# Altium footprint library sensornode.PcbLib: 55 footprints (part 4 of 4)
Each footprint in its own frame and in the unit in brackets; x right, y up, seen from the top. Pads: shape width x height; smd on the part's side, far side on the other; paste and mask are expansions set on the pad; w line width, h text height; cw(c..) or ccw(c..) is an arc to the next point about the centre after c.
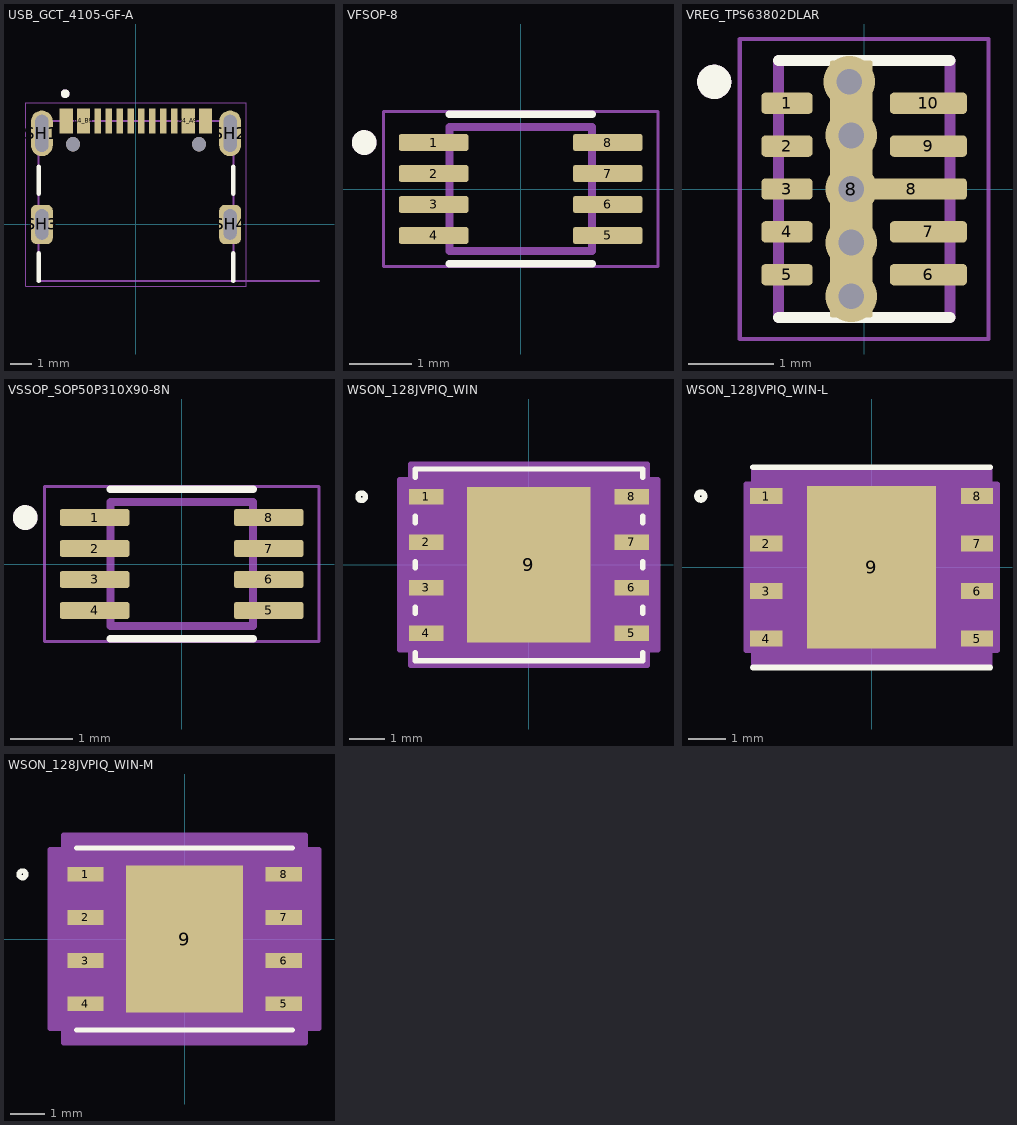
[diagram p3: the footprints below, top view; thin cyan lines are the x and y axes]

## USB_GCT_4105-GF-A [mm]
height 3.31
pads (18):
  rect 0.6x1.15 smd: A1_B12(-3.2,4.755) A4_B9(-2.4,4.755) B1_A12(3.2,4.755) B4_A9(2.4,4.755)
  rect 0.3x1.15 smd: A5(-1.25,4.755) A6(-0.25,4.755) A7(0.25,4.755) A8(1.25,4.755) B5(1.75,4.755) B6(0.75,4.755) B7(-0.75,4.755) B8(-1.75,4.755)
  oval 1x2.1 hole 0.6 slot 1.7 at 90 deg: SH1(-4.32,4.18) SH2(4.32,4.18)
  rrect50% 1x1.8 hole 0.6 slot 1.4 at 90 deg: SH3(-4.32,0) SH4(4.32,0)
  round 0.65 hole 0.65 unplated: ""(-2.89,3.68) ""(2.89,3.68)
Top Overlay:
  circle w0.2: c-3.25,6 r0.1
  lines w0.2: -4.47,-2.6 -4.47,-1.32 ; -4.47,1.4 -4.47,2.65 ; 4.47,-2.6 4.47,-1.32 ; 4.47,1.4 4.47,2.65
Mechanical 13:
  circle w0.2: c-3.25,6 r0.1
  lines w0.1: 8.4,-2.6 4.47,-2.6 ; 4.47,-2.6 -4.47,-2.6 -4.47,4.75 4.47,4.75 4.47,-2.6
  text "PCB EDGE" at 5.4,-2.5 h0.41
Mechanical 15:
  lines w0.05: -5.07,-2.85 5.07,-2.85 5.07,5.58 -5.07,5.58 -5.07,-2.85
3D body "step_temp.STEP": height 3.31, standoff -1.1, extent -4.47,-2.6 4.47,5.11

## VFSOP-8 [mm] "SOP50P310X90-8N"
pads (8):
  rrect25% 1.12x0.27 smd: 1(-1.405,0.75) 2(-1.405,0.25) 3(-1.405,-0.25) 4(-1.405,-0.75) 5(1.405,-0.75) 6(1.405,-0.25) 7(1.405,0.25) 8(1.405,0.75)
Top Overlay:
  circle w0.2: c-2.525,0.75 r0.1
  lines w0.127: -1.15,-1.205 1.15,-1.205 ; -1.15,1.205 1.15,1.205
Mechanical 13:
  circle w0.2: c-2.525,0.75 r0.1
  lines w0.127: -1.15,-1 -1.15,1 1.15,1 1.15,-1 -1.15,-1
Mechanical 15:
  lines w0.05: -2.215,-1.25 -2.215,1.25 2.215,1.25 2.215,-1.25 -2.215,-1.25
3D body "TXU0102DCUR.STEP": height 0.9, standoff 0, extent -1.5,-1 1.6,1

## VREG_TPS63802DLAR [mm]
height 1
pads (11):
  rrect40% 0.6x0.25 smd mask+0: 1(-0.9,1) 2(-0.9,0.5) 3(-0.9,0) 4(-0.9,-0.5) 5(-0.9,-1)
  rrect40% 0.9x0.25 smd mask+0: 6(0.75,-1) 7(0.75,-0.5) 9(0.75,0.5) 10(0.75,1)
  rrect12% 0.5x3 smd paste-2 mask+0.05: 8(-0.15,0)
  rrect40% 1.3x0.25 smd paste-2 mask+0: 8(0.55,0)
via -0.15,-1.25 diameter 0.6 hole 0.3
via -0.175,1.25 diameter 0.6 hole 0.3
via -0.15,0 diameter 0.6 hole 0.3
via -0.15,-0.625 diameter 0.6 hole 0.3
via -0.15,0.625 diameter 0.6 hole 0.3
Top Overlay:
  circle w0.2: c-1.75,1.25 r0.1
  lines w0.127: -1,-1.5 1,-1.5 ; -1,1.5 1,1.5
Top Paste:
  drawing of 2 lines, arcs and shapes, not listed
Top Solder:
  drawing of 10 lines, arcs and shapes, not listed
Mechanical 13:
  circle w0.2: c-1.75,1.25 r0.1
  lines w0.127: -1,-1.5 1,-1.5 1,1.5 -1,1.5 -1,-1.5
Mechanical 15:
  lines w0.05: -1.45,-1.75 1.45,-1.75 1.45,1.75 -1.45,1.75 -1.45,-1.75
3D body "TPS63802DLAR--3DModel-STEP-269445.STEP": height 1, standoff 0, extent -1,-1.5 1,1.5

## VSSOP_SOP50P310X90-8N [mm]
pads (8):
  rrect25% 1.12x0.27 smd: 1(-1.405,0.75) 2(-1.405,0.25) 3(-1.405,-0.25) 4(-1.405,-0.75) 5(1.405,-0.75) 6(1.405,-0.25) 7(1.405,0.25) 8(1.405,0.75)
Top Overlay:
  circle w0.2: c-2.525,0.75 r0.1
  lines w0.127: -1.15,-1.205 1.15,-1.205 ; -1.15,1.205 1.15,1.205
Mechanical 13:
  circle w0.2: c-2.525,0.75 r0.1
  lines w0.127: -1.15,-1 -1.15,1 1.15,1 1.15,-1 -1.15,-1
Mechanical 15:
  lines w0.05: -2.215,-1.25 -2.215,1.25 2.215,1.25 2.215,-1.25 -2.215,-1.25
3D body "step_temp.STEP": height 0.9, standoff 0, extent -1.55,-1 1.55,1

## WSON_128JVPIQ_WIN [mil]
pads (9):
  rect 38x17 smd paste+0 mask+0: 1(-113,75) 2(-113,25) 3(-113,-25) 4(-113,-75) 5(113,-75) 6(113,-25) 7(113,25) 8(113,75)
  rect 136x171 smd paste+0 mask+0: 9(0,0)
Top Overlay:
  circle w6: c-184,75 r4
  lines w6: -125,-96.6 -125,-105.5 125,-105.5 125,-96.6 ; -125,-53.4 -125,-46.6 ; -125,-3.4 -125,3.4 ; -125,46.6 -125,53.4 ; -125,96.6 -125,105.5 125,105.5 125,96.6 ; 125,-53.4 125,-46.6 ; 125,-3.4 125,3.4 ; 125,46.6 125,53.4
Top Paste:
  region: -3.94,81.56 -64.06,81.56 -64.06,32.44 -3.94,32.44
  region: -3.94,24.56 -64.06,24.56 -64.06,-24.56 -3.94,-24.56
  region: -3.94,-32.44 -64.06,-32.44 -64.06,-81.56 -3.94,-81.56
  region: 64.06,81.56 3.94,81.56 3.94,32.44 64.06,32.44
  region: 64.06,24.56 3.94,24.56 3.94,-24.56 64.06,-24.56
  region: 64.06,-32.44 3.94,-32.44 3.94,-81.56 64.06,-81.56
Mechanical 13:
  circle w0: c-94,75 r3
  lines w0: -12,100.5 ccw(c0,100.5) 12,100.5
  lines w1: -120,-100.5 120,-100.5 120,100.5 -120,100.5 -120,-100.5
Mechanical 15:
  region: -130,-93.5 -142,-93.5 -142,93.5 -130,93.5 -130,110.5 130,110.5 130,93.5 142,93.5 142,-93.5 130,-93.5 130,-110.5 -130,-110.5
  lines w6: -142,-93.5 -142,93.5 -130,93.5 -130,110.5 130,110.5 130,93.5 142,93.5 142,-93.5 130,-93.5 130,-110.5 -130,-110.5 -130,-93.5 -142,-93.5
3D body "WSON_128JVPIQ_WIN.step": height 32.09, standoff 0, extent -120,-100.51 120,100.51

## WSON_128JVPIQ_WIN-L [mil]
pads (9):
  rect 34x17 smd paste+0 mask+0: 1(-111,75) 2(-111,25) 3(-111,-25) 4(-111,-75) 5(111,-75) 6(111,-25) 7(111,25) 8(111,75)
  rect 136x171 smd paste+0 mask+0: 9(0,0)
Top Overlay:
  circle w6: c-180,75 r4
  lines w6: -125,-105.5 125,-105.5 ; -125,105.5 125,105.5
Top Paste:
  region: -3.94,81.56 -64.06,81.56 -64.06,32.44 -3.94,32.44
  region: -3.94,24.56 -64.06,24.56 -64.06,-24.56 -3.94,-24.56
  region: -3.94,-32.44 -64.06,-32.44 -64.06,-81.56 -3.94,-81.56
  region: 64.06,81.56 3.94,81.56 3.94,32.44 64.06,32.44
  region: 64.06,24.56 3.94,24.56 3.94,-24.56 64.06,-24.56
  region: 64.06,-32.44 3.94,-32.44 3.94,-81.56 64.06,-81.56
Mechanical 13:
  circle w0: c-94,75 r3
  lines w0: -12,100.5 ccw(c0,100.5) 12,100.5
  lines w1: -120,-100.5 120,-100.5 120,100.5 -120,100.5 -120,-100.5
Mechanical 15:
  region: -124,-87.5 -132,-87.5 -132,87.5 -124,87.5 -124,104.5 124,104.5 124,87.5 132,87.5 132,-87.5 124,-87.5 124,-104.5 -124,-104.5
  lines w6: -132,-87.5 -132,87.5 -124,87.5 -124,104.5 124,104.5 124,87.5 132,87.5 132,-87.5 124,-87.5 124,-104.5 -124,-104.5 -124,-87.5 -132,-87.5
3D body "WSON_128JVPIQ_WIN.step": height 32.09, standoff 0, extent -120,-100.51 120,100.51

## WSON_128JVPIQ_WIN-M [mil]
pads (9):
  rect 42x17 smd paste+0 mask+0: 1(-115,75) 2(-115,25) 3(-115,-25) 4(-115,-75) 5(115,-75) 6(115,-25) 7(115,25) 8(115,75)
  rect 136x171 smd paste+0 mask+0: 9(0,0)
Top Overlay:
  circle w6: c-188,75 r4
  lines w6: -125,-105.5 125,-105.5 ; -125,105.5 125,105.5
Top Paste:
  region: -3.94,81.56 -64.06,81.56 -64.06,32.44 -3.94,32.44
  region: -3.94,24.56 -64.06,24.56 -64.06,-24.56 -3.94,-24.56
  region: -3.94,-32.44 -64.06,-32.44 -64.06,-81.56 -3.94,-81.56
  region: 64.06,81.56 3.94,81.56 3.94,32.44 64.06,32.44
  region: 64.06,24.56 3.94,24.56 3.94,-24.56 64.06,-24.56
  region: 64.06,-32.44 3.94,-32.44 3.94,-81.56 64.06,-81.56
Mechanical 13:
  circle w0: c-94,75 r3
  lines w0: -12,100.5 ccw(c0,100.5) 12,100.5
  lines w1: -120,-100.5 120,-100.5 120,100.5 -120,100.5 -120,-100.5
Mechanical 15:
  region: -140,-103.5 -156,-103.5 -156,103.5 -140,103.5 -140,120.5 140,120.5 140,103.5 156,103.5 156,-103.5 140,-103.5 140,-120.5 -140,-120.5
  lines w6: -156,-103.5 -156,103.5 -140,103.5 -140,120.5 140,120.5 140,103.5 156,103.5 156,-103.5 140,-103.5 140,-120.5 -140,-120.5 -140,-103.5 -156,-103.5
3D body "WSON_128JVPIQ_WIN.step": height 32.09, standoff 0, extent -120,-100.51 120,100.51